# EAGLE library part DS3234 (library ElevenDroids - ICs)
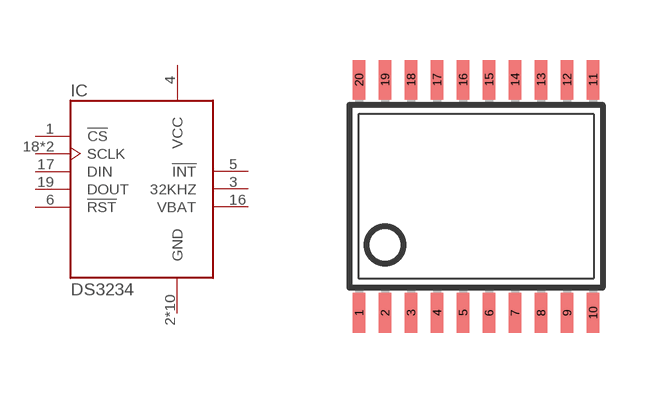
[diagram p5: symbol with the pads of TSSOP20; footprint TSSOP20]

Designator prefix IC

## DS3234S  [TSSOP20]
1  !CS  in
2  GND  pwr
3  32KHZ  out
4  VCC  pwr
5  !INT  out
6  !RST  out
7  GND  pwr
8  GND  pwr
9  GND  pwr
10  GND  pwr
11  GND  pwr
12  GND  pwr
13  GND  pwr
14  GND  pwr
15  GND  pwr
16  VBAT  pwr
17  DIN  in
18  SCLK  in
19  DOUT  out
20  SCLK  in

## Footprint TSSOP20 (pad centres in mm)
Thin Shrink Small Outline Plastic 20 MAX3223-MAX3243.pdf
smd 0.305 x 0.991: 1 -2.925,-2.918; 2 -2.275,-2.918; 3 -1.625,-2.918; 4 -0.975,-2.918; 5 -0.325,-2.918; 6 0.325,-2.918; 7 0.975,-2.918; 8 1.625,-2.918; 9 2.275,-2.918; 10 2.925,-2.918; 11 2.925,2.918; 12 2.275,2.918; 13 1.625,2.918; 14 0.975,2.918; 15 0.325,2.918; 16 -0.325,2.918; 17 -0.975,2.918; 18 -1.625,2.918; 19 -2.275,2.918; 20 -2.925,2.918